# EAGLE library part PCM4204 (library texas)
4-CHANNEL AUDIO ADC High Performance 24-Bit, 216kHz Sampling
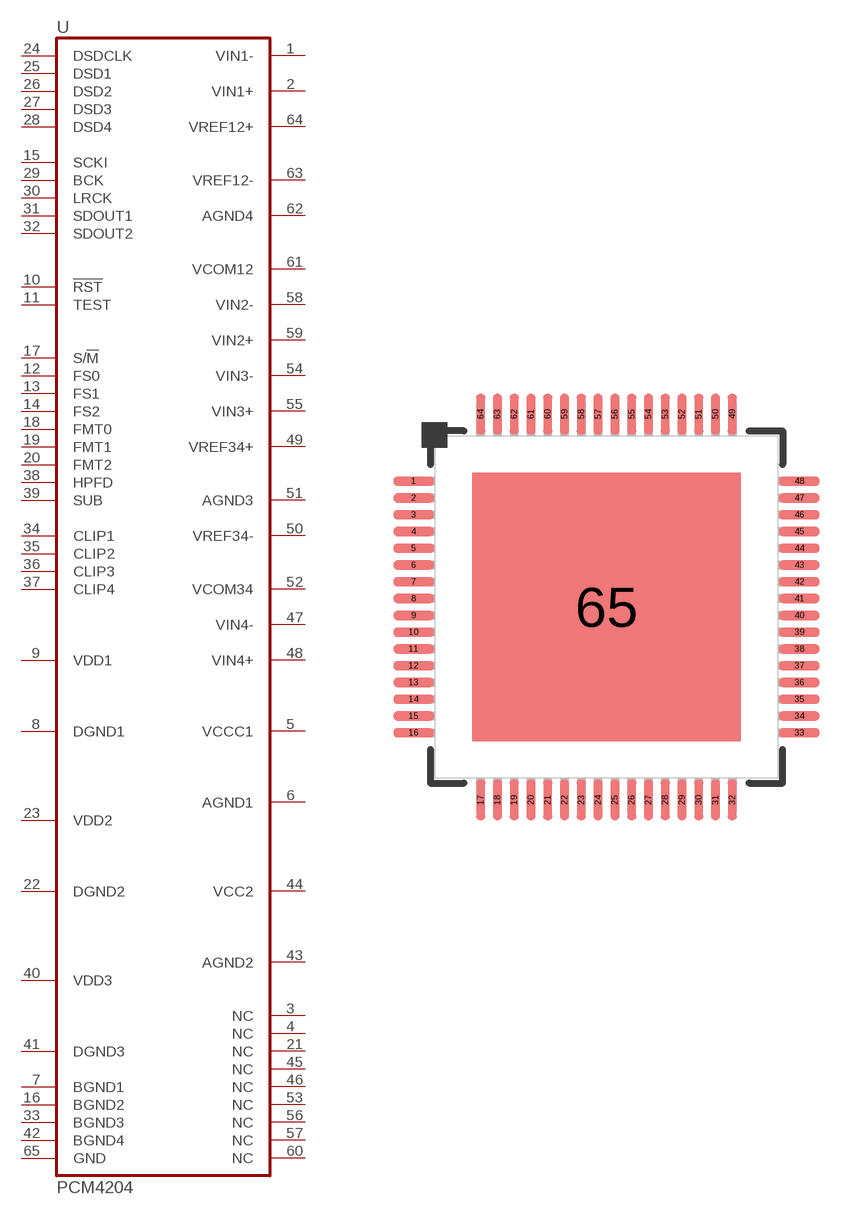
[diagram p70: symbol with the pads of HTQFP64-PAP; footprint HTQFP64-PAP]

Designator prefix U

## PCM4204  [HTQFP64-PAP]
1  VIN1-  in
2  VIN1+  in
3  NC  nc
4  NC  nc
5  VCCC1  pwr
6  AGND1  pwr
7  BGND1  pwr
8  DGND1  pwr
9  VDD1  pwr
10  !RST!  in
11  TEST  in
12  FS0  in
13  FS1  in
14  FS2  in
15  SCKI  in
16  BGND2  pwr
17  S/!M!  in
18  FMT0  in
19  FMT1  in
20  FMT2  in
21  NC  nc
22  DGND2  pwr
23  VDD2  pwr
24  DSDCLK
25  DSD1
26  DSD2
27  DSD3
28  DSD4
29  BCK
30  LRCK
31  SDOUT1  out
32  SDOUT2  out
33  BGND3  pwr
34  CLIP1  out
35  CLIP2  out
36  CLIP3  out
37  CLIP4  out
38  HPFD  in
39  SUB  in
40  VDD3  pwr
41  DGND3  pwr
42  BGND4  pwr
43  AGND2  pwr
44  VCC2  pwr
45  NC  nc
46  NC  nc
47  VIN4-  in
48  VIN4+  in
49  VREF34+  pas
50  VREF34-  pas
51  AGND3  pas
52  VCOM34  pas
53  NC  nc
54  VIN3-  in
55  VIN3+  in
56  NC  nc
57  NC  nc
58  VIN2-  in
59  VIN2+  in
60  NC  nc
61  VCOM12  pas
62  AGND4  pas
63  VREF12-  pas
64  VREF12+  pas
65  GND  pwr

## Footprint HTQFP64-PAP (pad centres in mm)
HTQFP 64 - PAP (S-PQFP-G64) PowerPAD 64, body 10.2 mm, pitch 0.5 mm
smd 1.2 x 0.27: 1 -5.75,3.75; 2 -5.75,3.25; 3 -5.75,2.75; 4 -5.75,2.25; 5 -5.75,1.75; 6 -5.75,1.25; 7 -5.75,0.75; 8 -5.75,0.25; 9 -5.75,-0.25; 10 -5.75,-0.75; 11 -5.75,-1.25; 12 -5.75,-1.75; 13 -5.75,-2.25; 14 -5.75,-2.75; 15 -5.75,-3.25; 16 -5.75,-3.75; 33 5.75,-3.75; 34 5.75,-3.25; 35 5.75,-2.75; 36 5.75,-2.25; 37 5.75,-1.75; 38 5.75,-1.25; 39 5.75,-0.75; 40 5.75,-0.25; 41 5.75,0.25; 42 5.75,0.75; 43 5.75,1.25; 44 5.75,1.75; 45 5.75,2.25; 46 5.75,2.75; 47 5.75,3.25; 48 5.75,3.75
smd 0.27 x 1.2: 17 -3.75,-5.75; 18 -3.25,-5.75; 19 -2.75,-5.75; 20 -2.25,-5.75; 21 -1.75,-5.75; 22 -1.25,-5.75; 23 -0.75,-5.75; 24 -0.25,-5.75; 25 0.25,-5.75; 26 0.75,-5.75; 27 1.25,-5.75; 28 1.75,-5.75; 29 2.25,-5.75; 30 2.75,-5.75; 31 3.25,-5.75; 32 3.75,-5.75; 49 3.75,5.75; 50 3.25,5.75; 51 2.75,5.75; 52 2.25,5.75; 53 1.75,5.75; 54 1.25,5.75; 55 0.75,5.75; 56 0.25,5.75; 57 -0.25,5.75; 58 -0.75,5.75; 59 -1.25,5.75; 60 -1.75,5.75; 61 -2.25,5.75; 62 -2.75,5.75; 63 -3.25,5.75; 64 -3.75,5.75
smd 8 x 8: 65 0,0